# Altium schematic symbol library CD4148WP.Schlib: 1 symbol
Pins are listed as number, name and electrical type; pins without a type are passive.

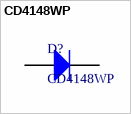
[diagram p0: symbol CD4148WP]

## CD4148WP
designator D?
Diode 4148 SMD- Small Signal Chip Switching Diode. 75V 0.15A.
pins: 1 A, 2 K